# Altium schematic symbol library mcu_stm32f1.SchLib: 7 symbols
Pins are listed as number, name and electrical type; pins without a type are passive.

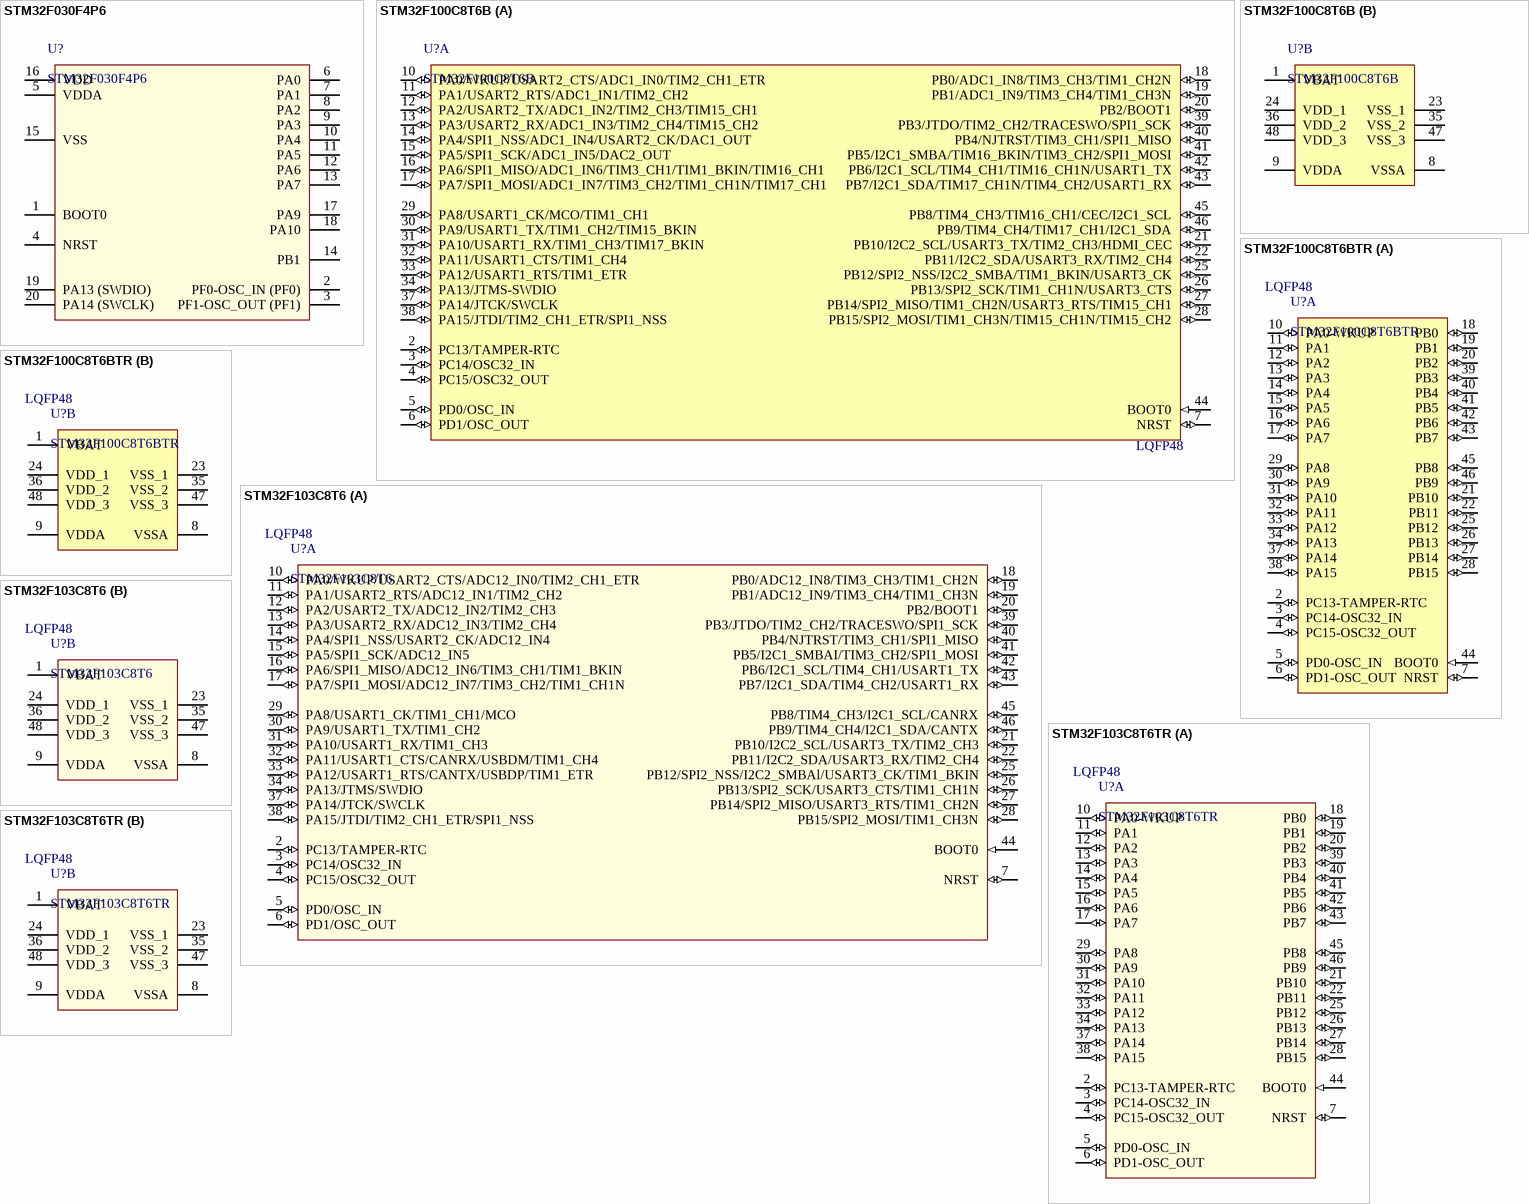
[diagram p0: symbols STM32F030F4P6 to STM32F103C8T6TR]

## STM32F030F4P6
designator U?
IC MCU 32BIT 16KB FLASH 20TSSOP; Manufacturer: STMicroelectronics; Core Processor: ARM® Cortex®-M0; Core Size: 32-Bit; Speed: 48MHz; Connectivity: I²C, SPI, UART/USART; Peripherals: DMA, POR, PWM, WDT; Program Memory Size: 16KB (16K x 8); RAM Size: 4K x 8; Voltage - Supply (Vcc/Vdd): 2.4 V ~ 3.6 V; Data Converters: A/D 11x12b; Oscillator Type: Internal; Supplier 1: Digi-Key; Supplier Part Number 1: 497-14044-5-ND; Manufacturer Part Number: STM32F030F4P6; RoHS: RoHS Compliant; Category: Integrated Circuits (ICs); Stock 1: 8559; Pricing 1: 1=1.3, 74=1.10122, 148=0.90459, 518=0.74728, 1036=0.58995 (USD); Packaging: Tube; Part Status: Active; Program Memory Type: FLASH; EEPROM Size: -; Operating Temperature: -40°C ~ 85°C (TA); Base Part Number: STM32F030; ComponentLink1URL: http://www.st.com/content/ccc/resource/technical/document/datasheet/a4/5d/0b/0e/87/c4/4d/71/DM00088500.pdf/files/DM00088500.pdf/jcr:content/translations/en.DM00088500.pdf; ComponentLink1Description: http://www.st.com/content/ccc/resource/technical/document/datasheet/a4/5d/0b/0e/87/c4/4d/71/DM00088500.pdf/files/DM00088500.pdf/jcr:content/translations/en.DM00088500.pdf; Package: 20-TSSOP (0.173", 4.40mm Width)
footprint ST/TSSOP20
pins: 1 BOOT0, 2 PF0-OSC_IN (PF0), 3 PF1-OSC_OUT (PF1), 4 NRST, 5 VDDA, 6 PA0, 7 PA1, 8 PA2, 9 PA3, 10 PA4, 11 PA5, 12 PA6, 13 PA7, 14 PB1, 15 VSS, 16 VDD, 17 PA9, 18 PA10, 19 PA13 (SWDIO), 20 PA14 (SWCLK)

## STM32F100C8T6B
designator U?  PACKAGE: LQFP48
ARM Cortex-M3 32-bit MCU, 64 KB Flash, 8 KB Internal RAM, 37 I/Os, 48-pin LQFP, -40 to 85 degC, Tray
footprint STM-LQFP48_N (QFP, 48-Leads, Body 7x7mm, Pitch 0.5mm, IPC Medium Density)
footprint STM-LQFP48_L (QFP, 48-Leads, Body 7x7mm, Pitch 0.5mm, IPC High Density)
footprint STM-LQFP48_M (QFP, 48-Leads, Body 7x7mm, Pitch 0.5mm, IPC Low Density)
part A pins: 2 PC13/TAMPER-RTC (io) "PC13-TAMPER-RTC/PC13/TAMPER-RTC", 3 PC14/OSC32_IN (io) "PC14-OSC32_IN/PC14/OSC32_IN", 4 PC15/OSC32_OUT (io) "PC15-OSC32_OUT/PC15/OSC32_OUT", 5 PD0/OSC_IN (io), 6 PD1/OSC_OUT (io), 7 NRST (io), 10 PA0/WKUP/USART2_CTS/ADC1_IN0/TIM2_CH1_ETR (io) "PA0-WKUP/PA0/WKUP/USART2_CTS/ADC1_IN0/TIM2_CH1_ETR", 11 PA1/USART2_RTS/ADC1_IN1/TIM2_CH2 (io), 12 PA2/USART2_TX/ADC1_IN2/TIM2_CH3/TIM15_CH1 (io), 13 PA3/USART2_RX/ADC1_IN3/TIM2_CH4/TIM15_CH2 (io), 14 PA4/SPI1_NSS/ADC1_IN4/USART2_CK/DAC1_OUT (io), 15 PA5/SPI1_SCK/ADC1_IN5/DAC2_OUT (io), 16 PA6/SPI1_MISO/ADC1_IN6/TIM3_CH1/TIM1_BKIN/TIM16_CH1 (io), 17 PA7/SPI1_MOSI/ADC1_IN7/TIM3_CH2/TIM1_CH1N/TIM17_CH1 (io), 18 PB0/ADC1_IN8/TIM3_CH3/TIM1_CH2N (io), 19 PB1/ADC1_IN9/TIM3_CH4/TIM1_CH3N (io), 20 PB2/BOOT1 (io), 21 PB10/I2C2_SCL/USART3_TX/TIM2_CH3/HDMI_CEC (io), 22 PB11/I2C2_SDA/USART3_RX/TIM2_CH4 (io), 25 PB12/SPI2_NSS/I2C2_SMBA/TIM1_BKIN/USART3_CK (io), 26 PB13/SPI2_SCK/TIM1_CH1N/USART3_CTS (io), 27 PB14/SPI2_MISO/TIM1_CH2N/USART3_RTS/TIM15_CH1 (io), 28 PB15/SPI2_MOSI/TIM1_CH3N/TIM15_CH1N/TIM15_CH2 (io), 29 PA8/USART1_CK/MCO/TIM1_CH1 (io), 30 PA9/USART1_TX/TIM1_CH2/TIM15_BKIN (io), 31 PA10/USART1_RX/TIM1_CH3/TIM17_BKIN (io), 32 PA11/USART1_CTS/TIM1_CH4 (io), 33 PA12/USART1_RTS/TIM1_ETR (io), 34 PA13/JTMS-SWDIO (io), 37 PA14/JTCK/SWCLK (io), 38 PA15/JTDI/TIM2_CH1_ETR/SPI1_NSS (io), 39 PB3/JTDO/TIM2_CH2/TRACESWO/SPI1_SCK (io), 40 PB4/NJTRST/TIM3_CH1/SPI1_MISO (io), 41 PB5/I2C1_SMBA/TIM16_BKIN/TIM3_CH2/SPI1_MOSI (io), 42 PB6/I2C1_SCL/TIM4_CH1/TIM16_CH1N/USART1_TX (io), 43 PB7/I2C1_SDA/TIM17_CH1N/TIM4_CH2/USART1_RX (io), 44 BOOT0 (in), 45 PB8/TIM4_CH3/TIM16_CH1/CEC/I2C1_SCL (io), 46 PB9/TIM4_CH4/TIM17_CH1/I2C1_SDA (io)
part B pins: 1 VBAT (power), 8 VSSA (power), 9 VDDA (power), 23 VSS_1 (power), 24 VDD_1 (power), 35 VSS_2 (power), 36 VDD_2 (power), 47 VSS_3 (power), 48 VDD_3 (power)

## STM32F100C8T6BTR
designator U?  PACKAGE: LQFP48
ARM Cortex-M3 32-bit MCU, 64 KB Flash, 8 KB Internal RAM, 37 I/Os, 48-pin LQFP, -40 to 85 degC, Tape and Reel
footprint STM-LQFP48_N (QFP, 48-Leads, Body 7x7mm, Pitch 0.5mm, IPC Medium Density)
footprint STM-LQFP48_L (QFP, 48-Leads, Body 7x7mm, Pitch 0.5mm, IPC High Density)
footprint STM-LQFP48_M (QFP, 48-Leads, Body 7x7mm, Pitch 0.5mm, IPC Low Density)
part A pins: 2 PC13-TAMPER-RTC (io) "PC13-TAMPER-RTC/PC13/TAMPER-RTC", 3 PC14-OSC32_IN (io) "PC14-OSC32_IN/PC14/OSC32_IN", 4 PC15-OSC32_OUT (io) "PC15-OSC32_OUT/PC15/OSC32_OUT", 5 PD0-OSC_IN (io) "PD0/OSC_IN", 6 PD1-OSC_OUT (io) "PD1/OSC_OUT", 7 NRST (io), 10 PA0-WKUP (io) "PA0-WKUP/PA0/WKUP/USART2_CTS/ADC1_IN0/TIM2_CH1_ETR", 11 PA1 (io) "PA1/USART2_RTS/ADC1_IN1/TIM2_CH2", 12 PA2 (io) "PA2/USART2_TX/ADC1_IN2/TIM2_CH3/TIM15_CH1", 13 PA3 (io) "PA3/USART2_RX/ADC1_IN3/TIM2_CH4/TIM15_CH2", 14 PA4 (io) "PA4/SPI1_NSS/ADC1_IN4/USART2_CK/DAC1_OUT", 15 PA5 (io) "PA5/SPI1_SCK/ADC1_IN5/DAC2_OUT", 16 PA6 (io) "PA6/SPI1_MISO/ADC1_IN6/TIM3_CH1/TIM1_BKIN/TIM16_CH1", 17 PA7 (io) "PA7/SPI1_MOSI/ADC1_IN7/TIM3_CH2/TIM1_CH1N/TIM17_CH1", 18 PB0 (io) "PB0/ADC1_IN8/TIM3_CH3/TIM1_CH2N", 19 PB1 (io) "PB1/ADC1_IN9/TIM3_CH4/TIM1_CH3N", 20 PB2 (io) "PB2/BOOT1", 21 PB10 (io) "PB10/I2C2_SCL/USART3_TX/TIM2_CH3/HDMI_CEC", 22 PB11 (io) "PB11/I2C2_SDA/USART3_RX/TIM2_CH4", 25 PB12 (io) "PB12/SPI2_NSS/I2C2_SMBA/TIM1_BKIN/USART3_CK", 26 PB13 (io) "PB13/SPI2_SCK/TIM1_CH1N/USART3_CTS", 27 PB14 (io) "PB14/SPI2_MISO/TIM1_CH2N/USART3_RTS/TIM15_CH1", 28 PB15 (io) "PB15/SPI2_MOSI/TIM1_CH3N/TIM15_CH1N/TIM15_CH2", 29 PA8 (io) "PA8/USART1_CK/MCO/TIM1_CH1", 30 PA9 (io) "PA9/USART1_TX/TIM1_CH2/TIM15_BKIN", 31 PA10 (io) "PA10/USART1_RX/TIM1_CH3/TIM17_BKIN", 32 PA11 (io) "PA11/USART1_CTS/TIM1_CH4", 33 PA12 (io) "PA12/USART1_RTS/TIM1_ETR", 34 PA13 (io) "PA13/JTMS-SWDIO", 37 PA14 (io) "PA14/JTCK/SWCLK", 38 PA15 (io) "PA15/JTDI/TIM2_CH1_ETR/SPI1_NSS", 39 PB3 (io) "PB3/JTDO/TIM2_CH2/TRACESWO/SPI1_SCK", 40 PB4 (io) "PB4/NJTRST/TIM3_CH1/SPI1_MISO", 41 PB5 (io) "PB5/I2C1_SMBA/TIM16_BKIN/TIM3_CH2/SPI1_MOSI", 42 PB6 (io) "PB6/I2C1_SCL/TIM4_CH1/TIM16_CH1N/USART1_TX", 43 PB7 (io) "PB7/I2C1_SDA/TIM17_CH1N/TIM4_CH2/USART1_RX", 44 BOOT0 (in), 45 PB8 (io) "PB8/TIM4_CH3/TIM16_CH1/CEC/I2C1_SCL", 46 PB9 (io) "PB9/TIM4_CH4/TIM17_CH1/I2C1_SDA"
part B pins: 1 VBAT (power), 8 VSSA (power), 9 VDDA (power), 23 VSS_1 (power), 24 VDD_1 (power), 35 VSS_2 (power), 36 VDD_2 (power), 47 VSS_3 (power), 48 VDD_3 (power)

## STM32F103C8T6
designator U?  PACKAGE: LQFP48
ARM Cortex-M3 32-bit MCU, 64 KB Flash, 20 KB Internal RAM, 37 I/Os, 48-pin LQFP, -40 to 85 degC, Tray
footprint STM-LQFP48_N (QFP, 48-Leads, Body 7x7mm, Pitch 0.5mm, IPC Medium Density)
footprint STM-LQFP48_L (QFP, 48-Leads, Body 7x7mm, Pitch 0.5mm, IPC High Density)
footprint STM-LQFP48_M (QFP, 48-Leads, Body 7x7mm, Pitch 0.5mm, IPC Low Density)
part A pins: 2 PC13/TAMPER-RTC (io) "PC13-TAMPER-RTC/PC13/TAMPER-RTC", 3 PC14/OSC32_IN (io) "PC14-OSC32_IN/PC14/OSC32_IN", 4 PC15/OSC32_OUT (io) "PC15-OSC32_OUT/PC15/OSC32_OUT", 5 PD0/OSC_IN (io), 6 PD1/OSC_OUT (io), 7 NRST (io), 10 PA0/WKUP/USART2_CTS/ADC12_IN0/TIM2_CH1_ETR (io) "PA0-WKUP/PA0/WKUP/USART2_CTS/ADC12_IN0/TIM2_CH1_ETR", 11 PA1/USART2_RTS/ADC12_IN1/TIM2_CH2 (io), 12 PA2/USART2_TX/ADC12_IN2/TIM2_CH3 (io), 13 PA3/USART2_RX/ADC12_IN3/TIM2_CH4 (io), 14 PA4/SPI1_NSS/USART2_CK/ADC12_IN4 (io), 15 PA5/SPI1_SCK/ADC12_IN5 (io), 16 PA6/SPI1_MISO/ADC12_IN6/TIM3_CH1/TIM1_BKIN (io), 17 PA7/SPI1_MOSI/ADC12_IN7/TIM3_CH2/TIM1_CH1N (io), 18 PB0/ADC12_IN8/TIM3_CH3/TIM1_CH2N (io), 19 PB1/ADC12_IN9/TIM3_CH4/TIM1_CH3N (io), 20 PB2/BOOT1 (io), 21 PB10/I2C2_SCL/USART3_TX/TIM2_CH3 (io), 22 PB11/I2C2_SDA/USART3_RX/TIM2_CH4 (io), 25 PB12/SPI2_NSS/I2C2_SMBAl/USART3_CK/TIM1_BKIN (io), 26 PB13/SPI2_SCK/USART3_CTS/TIM1_CH1N (io), 27 PB14/SPI2_MISO/USART3_RTS/TIM1_CH2N (io), 28 PB15/SPI2_MOSI/TIM1_CH3N (io), 29 PA8/USART1_CK/TIM1_CH1/MCO (io), 30 PA9/USART1_TX/TIM1_CH2 (io), 31 PA10/USART1_RX/TIM1_CH3 (io), 32 PA11/USART1_CTS/CANRX/USBDM/TIM1_CH4 (io), 33 PA12/USART1_RTS/CANTX/USBDP/TIM1_ETR (io), 34 PA13/JTMS/SWDIO (io), 37 PA14/JTCK/SWCLK (io), 38 PA15/JTDI/TIM2_CH1_ETR/SPI1_NSS (io), 39 PB3/JTDO/TIM2_CH2/TRACESWO/SPI1_SCK (io), 40 PB4/NJTRST/TIM3_CH1/SPI1_MISO (io), 41 PB5/I2C1_SMBAI/TIM3_CH2/SPI1_MOSI (io), 42 PB6/I2C1_SCL/TIM4_CH1/USART1_TX (io), 43 PB7/I2C1_SDA/TIM4_CH2/USART1_RX (io), 44 BOOT0 (in), 45 PB8/TIM4_CH3/I2C1_SCL/CANRX (io), 46 PB9/TIM4_CH4/I2C1_SDA/CANTX (io)
part B pins: 1 VBAT (power), 8 VSSA (power), 9 VDDA (power), 23 VSS_1 (power), 24 VDD_1 (power), 35 VSS_2 (power), 36 VDD_2 (power), 47 VSS_3 (power), 48 VDD_3 (power)

## STM32F103C8T6TR
designator U?  PACKAGE: LQFP48
ARM Cortex-M3 32-bit MCU, 64 KB Flash, 20 KB Internal RAM, 37 I/Os, 48-pin LQFP, -40 to 85 degC, Tape and Reel
footprint STM-LQFP48_N (QFP, 48-Leads, Body 7x7mm, Pitch 0.5mm, IPC Medium Density)
footprint STM-LQFP48_L (QFP, 48-Leads, Body 7x7mm, Pitch 0.5mm, IPC High Density)
footprint STM-LQFP48_M (QFP, 48-Leads, Body 7x7mm, Pitch 0.5mm, IPC Low Density)
part A pins: 2 PC13-TAMPER-RTC (io) "PC13-TAMPER-RTC/PC13/TAMPER-RTC", 3 PC14-OSC32_IN (io) "PC14-OSC32_IN/PC14/OSC32_IN", 4 PC15-OSC32_OUT (io) "PC15-OSC32_OUT/PC15/OSC32_OUT", 5 PD0-OSC_IN (io) "PD0/OSC_IN", 6 PD1-OSC_OUT (io) "PD1/OSC_OUT", 7 NRST (io), 10 PA0-WKUP (io) "PA0-WKUP/PA0/WKUP/USART2_CTS/ADC12_IN0/TIM2_CH1_ETR", 11 PA1 (io) "PA1/USART2_RTS/ADC12_IN1/TIM2_CH2", 12 PA2 (io) "PA2/USART2_TX/ADC12_IN2/TIM2_CH3", 13 PA3 (io) "PA3/USART2_RX/ADC12_IN3/TIM2_CH4", 14 PA4 (io) "PA4/SPI1_NSS/USART2_CK/ADC12_IN4", 15 PA5 (io) "PA5/SPI1_SCK/ADC12_IN5", 16 PA6 (io) "PA6/SPI1_MISO/ADC12_IN6/TIM3_CH1/TIM1_BKIN", 17 PA7 (io) "PA7/SPI1_MOSI/ADC12_IN7/TIM3_CH2/TIM1_CH1N", 18 PB0 (io) "PB0/ADC12_IN8/TIM3_CH3/TIM1_CH2N", 19 PB1 (io) "PB1/ADC12_IN9/TIM3_CH4/TIM1_CH3N", 20 PB2 (io) "PB2/BOOT1", 21 PB10 (io) "PB10/I2C2_SCL/USART3_TX/TIM2_CH3", 22 PB11 (io) "PB11/I2C2_SDA/USART3_RX/TIM2_CH4", 25 PB12 (io) "PB12/SPI2_NSS/I2C2_SMBAl/USART3_CK/TIM1_BKIN", 26 PB13 (io) "PB13/SPI2_SCK/USART3_CTS/TIM1_CH1N", 27 PB14 (io) "PB14/SPI2_MISO/USART3_RTS/TIM1_CH2N", 28 PB15 (io) "PB15/SPI2_MOSI/TIM1_CH3N", 29 PA8 (io) "PA8/USART1_CK/TIM1_CH1/MCO", 30 PA9 (io) "PA9/USART1_TX/TIM1_CH2", 31 PA10 (io) "PA10/USART1_RX/TIM1_CH3", 32 PA11 (io) "PA11/USART1_CTS/CANRX/USBDM/TIM1_CH4", 33 PA12 (io) "PA12/USART1_RTS/CANTX/USBDP/TIM1_ETR", 34 PA13 (io) "PA13/JTMS/SWDIO", 37 PA14 (io) "PA14/JTCK/SWCLK", 38 PA15 (io) "PA15/JTDI/TIM2_CH1_ETR/SPI1_NSS", 39 PB3 (io) "PB3/JTDO/TIM2_CH2/TRACESWO/SPI1_SCK", 40 PB4 (io) "PB4/NJTRST/TIM3_CH1/SPI1_MISO", 41 PB5 (io) "PB5/I2C1_SMBAI/TIM3_CH2/SPI1_MOSI", 42 PB6 (io) "PB6/I2C1_SCL/TIM4_CH1/USART1_TX", 43 PB7 (io) "PB7/I2C1_SDA/TIM4_CH2/USART1_RX", 44 BOOT0 (in), 45 PB8 (io) "PB8/TIM4_CH3/I2C1_SCL/CANRX", 46 PB9 (io) "PB9/TIM4_CH4/I2C1_SDA/CANTX"
part B pins: 1 VBAT (power), 8 VSSA (power), 9 VDDA (power), 23 VSS_1 (power), 24 VDD_1 (power), 35 VSS_2 (power), 36 VDD_2 (power), 47 VSS_3 (power), 48 VDD_3 (power)

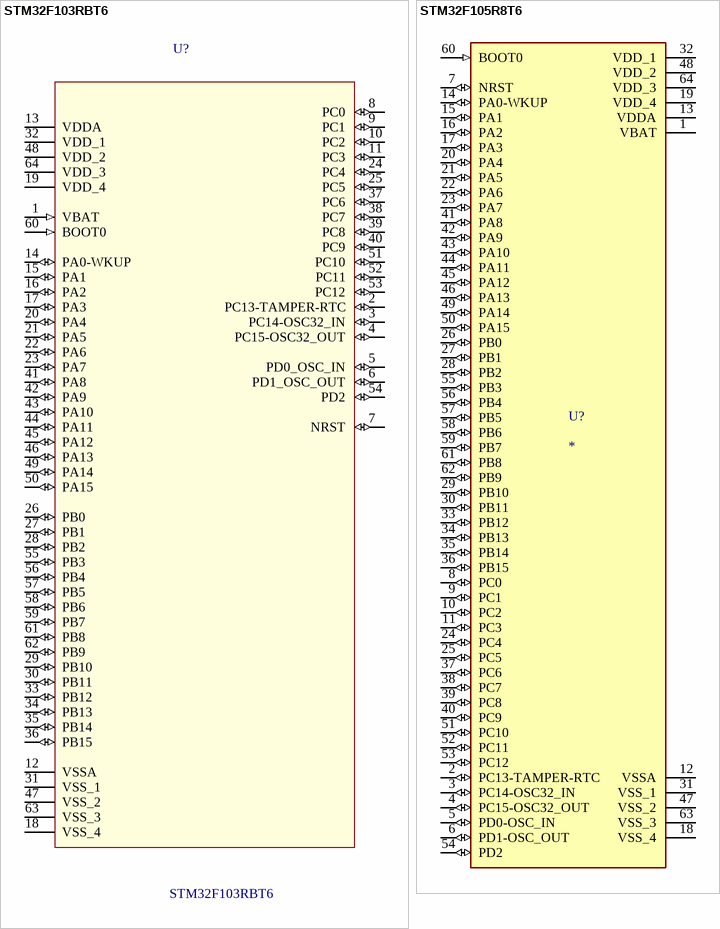
[diagram p1: symbols STM32F103RBT6 to STM32F105R8T6]

## STM32F103RBT6
designator U?
Mainstream Performance line, ARM Cortex-M3 MCU with 128 Kbytes Flash, 72 MHz CPU, motor control, USB and CAN; MF: STMicroelectronics; MP: STM32F103RBT6; SnapEDA_Link: https://www.snapeda.com/parts/STM32F103RBT6/STMicroelectronics/view-part/?ref=snap; Availability: Unavailable; Package: LQFP-64 STMicroelectronics; Price: None; Value: *
footprint STM-LQFP64
pins: 1 VBAT (in), 2 PC13-TAMPER-RTC (io), 3 PC14-OSC32_IN (io), 4 PC15-OSC32_OUT (io), 5 PD0_OSC_IN (io), 6 PD1_OSC_OUT (io), 7 NRST (io), 8 PC0 (io), 9 PC1 (io), 10 PC2 (io), 11 PC3 (io), 12 VSSA, 13 VDDA (power), 14 PA0-WKUP (io), 15 PA1 (io), 16 PA2 (io), 17 PA3 (io), 18 VSS_4, 19 VDD_4 (power), 20 PA4 (io), 21 PA5 (io), 22 PA6 (io), 23 PA7 (io), 24 PC4 (io), 25 PC5 (io), 26 PB0 (io), 27 PB1 (io), 28 PB2 (io), 29 PB10 (io), 30 PB11 (io), 31 VSS_1, 32 VDD_1 (power), 33 PB12 (io), 34 PB13 (io), 35 PB14 (io), 36 PB15 (io), 37 PC6 (io), 38 PC7 (io), 39 PC8 (io), 40 PC9 (io), 41 PA8 (io), 42 PA9 (io), 43 PA10 (io), 44 PA11 (io), 45 PA12 (io), 46 PA13 (io), 47 VSS_2, 48 VDD_2 (power), 49 PA14 (io), 50 PA15 (io), 51 PC10 (io), 52 PC11 (io), 53 PC12 (io), 54 PD2 (io), 55 PB3 (io), 56 PB4 (io), 57 PB5 (io), 58 PB6 (io), 59 PB7 (io), 60 BOOT0 (in), 61 PB8 (io), 62 PB9 (io), 63 VSS_3, 64 VDD_3 (power)

## STM32F105R8T6
designator U?
ARM® Cortex®-M3 STM32F1 Microcontroller IC 32-Bit 72MHz 64KB _64K x 8_ FLASH; MF: STMicroelectronics; MP: STM32F105R8T6; Package: LQFP-64 STMicroelectronics; Value: *; Availability: Unavailable; SnapEDA_Link: https://www.snapeda.com/parts/STM32F105R8T6/STMicroelectronics/view-part/423032/?ref=snap; Price: None
footprint STM-LQFP64
pins: 1 VBAT (power), 2 PC13-TAMPER-RTC (io), 3 PC14-OSC32_IN (io), 4 PC15-OSC32_OUT (io), 5 PD0-OSC_IN (io), 6 PD1-OSC_OUT (io), 7 NRST (io), 8 PC0 (io), 9 PC1 (io), 10 PC2 (io), 11 PC3 (io), 12 VSSA (power), 13 VDDA (power), 14 PA0-WKUP (io), 15 PA1 (io), 16 PA2 (io), 17 PA3 (io), 18 VSS_4 (power), 19 VDD_4 (power), 20 PA4 (io), 21 PA5 (io), 22 PA6 (io), 23 PA7 (io), 24 PC4 (io), 25 PC5 (io), 26 PB0 (io), 27 PB1 (io), 28 PB2 (io), 29 PB10 (io), 30 PB11 (io), 31 VSS_1 (power), 32 VDD_1 (power), 33 PB12 (io), 34 PB13 (io), 35 PB14 (io), 36 PB15 (io), 37 PC6 (io), 38 PC7 (io), 39 PC8 (io), 40 PC9 (io), 41 PA8 (io), 42 PA9 (io), 43 PA10 (io), 44 PA11 (io), 45 PA12 (io), 46 PA13 (io), 47 VSS_2 (power), 48 VDD_2 (power), 49 PA14 (io), 50 PA15 (io), 51 PC10 (io), 52 PC11 (io), 53 PC12 (io), 54 PD2 (io), 55 PB3 (io), 56 PB4 (io), 57 PB5 (io), 58 PB6 (io), 59 PB7 (io), 60 BOOT0 (in), 61 PB8 (io), 62 PB9 (io), 63 VSS_3 (power), 64 VDD_3 (power)